# Altium footprint library HDR5_F.PcbLib: 1 footprints
Each footprint in its own frame and in the unit in brackets; x right, y up, seen from the top. Pads: shape width x height; smd on the part's side, far side on the other; paste and mask are expansions set on the pad; w line width, h text height; cw(c..) or ccw(c..) is an arc to the next point about the centre after c.
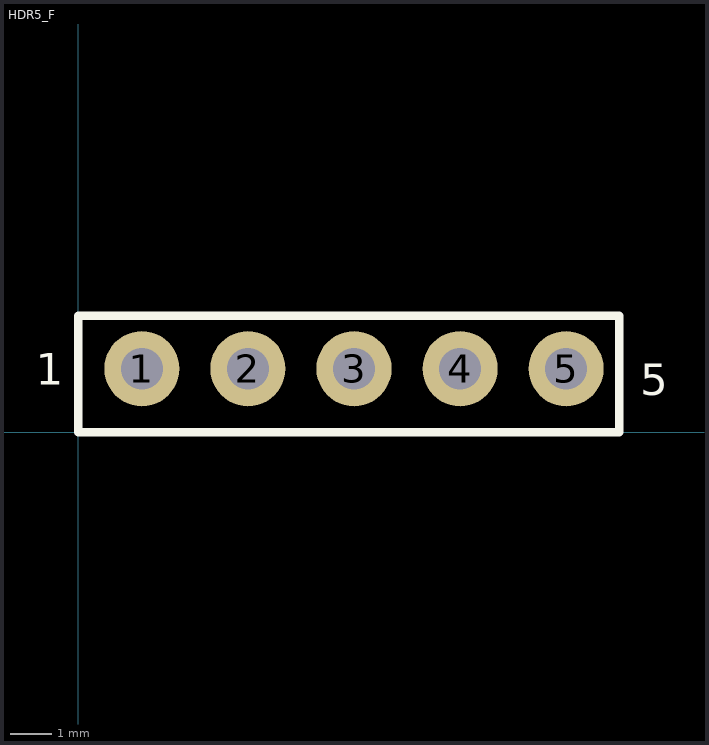
[diagram p0: the footprint, top view; thin cyan lines are the x and y axes]

## HDR5_F [mm]
pads (5):
  round 1.8 hole 1: 1(1.524,1.524) 2(4.064,1.524) 3(6.604,1.524) 4(9.144,1.524) 5(11.684,1.524)
Top Overlay:
  lines w0.2: 0,0 0,2.794 12.954,2.794 12.954,0 0,0
  text "1" at -1.016,1.143 h0.76
  text "5" at 13.462,0.889 h0.76
3D body "Pin Header 1x5 TH Pitch 2.54mm.stp": height 9.5, standoff -3.2, extent 0.128,0.074 12.828,2.614